# EAGLE library part TLV9102S (library ICs)
General Purpose Amplifier 2 Circuit Rail-to-Rail 8-WSON (2x2)
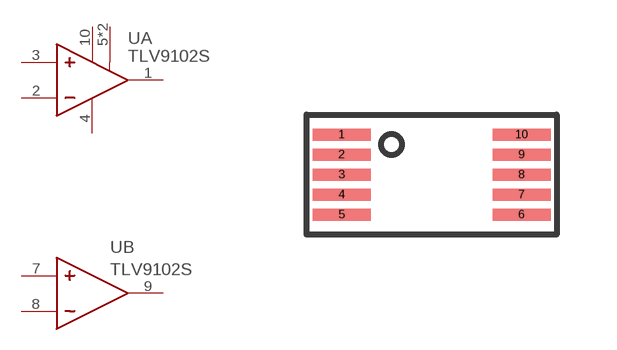
[diagram p250: symbol with the pads of VSSOP10; footprint VSSOP10]

Designator prefix U; gates A=OPAMP_SINGLE_BASIC B=OPAMP_NOSUPPLIES

## TLV9102S (DIGIKEY: 296-TLV9102SIDGSRCT-ND; HEIGHT: 1; PRICE_PER: 1.09; VALUE: TLV9102S)  [VSSOP10]
1  A:OUT
2  A:-
3  A:+
4  A:V-
5  A:SF
6  A:SF
7  B:+
8  B:-
9  B:OUT
10  A:V+

## Footprint VSSOP10 (pad centres in mm)
smd 1.45 x 0.3: 1 -2.25,1; 2 -2.25,0.5; 3 -2.25,0; 4 -2.25,-0.5; 5 -2.25,-1; 6 2.25,-1; 7 2.25,-0.5; 8 2.25,0; 9 2.25,0.5; 10 2.25,1